# Altium schematic symbol library Connectors.SchLib: 3 symbols
Pins are listed as number, name and electrical type; pins without a type are passive.

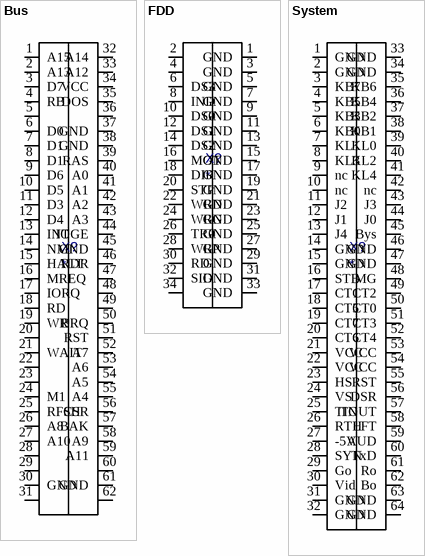
[diagram p0: symbols Bus to System]

## Bus
designator X?
footprint SL62
pins: 1 A15, 2 A13, 3 D7, 4 RB, 5, 6 D0, 7 D1, 8 D1, 9 D6, 10 D5, 11 D3, 12 D4, 13 INT, 14 NMI, 15 HALT, 16 MREQ, 17 IORQ, 18 RD, 19 WR, 20, 21 WAIT, 22, 23, 24 M1, 25 RFSH, 26 A8, 27 A10, 28, 29, 30 GND, 31, 32 A14, 33 A12, 34 VCC, 35 DOS, 36, 37 GND, 38 GND, 39 RAS, 40 A0, 41 A1, 42 A2, 43 A3, 44 IOGE, 45 GND, 46 RDR, 47, 48, 49, 50 BRQ, 51 RST, 52 A7, 53 A6, 54 A5, 55 A4, 56 CSR, 57 BAK, 58 A9, 59 A11, 60, 61 GND, 62

## FDD
designator X?
footprint TE_103309-7
pins: 1 GND, 2, 3 GND, 4, 5 GND, 6 DS3, 7 GND, 8 IND, 9 GND, 10 DS0, 11 GND, 12 DS1, 13 GND, 14 DS2, 15 GND, 16 MOT, 17 GND, 18 DIR, 19 GND, 20 STP, 21 GND, 22 WRD, 23 GND, 24 WRG, 25 GND, 26 TR0, 27 GND, 28 WRP, 29 GND, 30 RD, 31 GND, 32 SID, 33 GND, 34

## System
designator X?
footprint TE_6-1393644-3 (DIN41612R)
pins: 1 GND, 2 GND, 3 KB7, 4 KB5, 5 KB3, 6 KB0, 7 KL1, 8 KL3, 9 nc, 10 nc, 11 J2, 12 J1, 13 J4, 14 GND, 15 GND, 16 STB, 17 CT1, 18 CT5, 19 CT7, 20 CT6, 21 VCC, 22 VCC, 23 HS, 24 VS, 25 TIN, 26 RTH, 27 -5V, 28 SYN, 29 Go, 30 Vid, 31 GND, 32 GND, 33 GND, 34 GND, 35 KB6, 36 KB4, 37 KB2, 38 KB1, 39 KL0, 40 KL2, 41 KL4, 42 nc, 43 J3, 44 J0, 45 Bys, 46 GND, 47 GND, 48 MG, 49 CT2, 50 CT0, 51 CT3, 52 CT4, 53 VCC, 54 VCC, 55 RST, 56 DSR, 57 TOUT, 58 LFT, 59 AUD, 60 TxD, 61 Ro, 62 Bo, 63 GND, 64 GND